# Altium footprint library EVAL.PcbLib: 3 footprints
Each footprint in its own frame and in the unit in brackets; x right, y up, seen from the top. Pads: shape width x height; smd on the part's side, far side on the other; paste and mask are expansions set on the pad; w line width, h text height; cw(c..) or ccw(c..) is an arc to the next point about the centre after c.
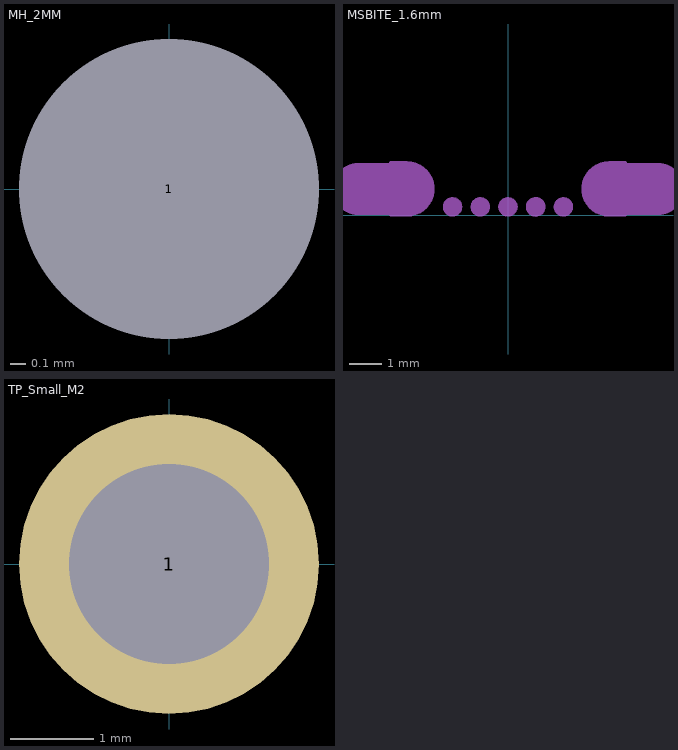
[diagram p0: the footprints below, top view; thin cyan lines are the x and y axes]

## MH_2MM [mm] "Mounting Hole - 2 mm"
pads (1):
  round 0.1 hole 2 unplated paste-2539.97 mask+0: 1(0,0)

## MSBITE_1.6mm [mm] "Mousebite - 1.6 mm spacing"
Route Tool Path:
  circle w0.25: c-1.7,0.25 r0.125
  circle w0.25: c1.7,0.25 r0.125
  circle w0.25: c-0.85,0.25 r0.125
  circle w0.25: c0.85,0.25 r0.125
  circle w0.25: c0,0.25 r0.125
  lines w1.6: -4.6,0.8 -3.1,0.8 ; 3.1,0.8 4.6,0.8
Manufacturing Notes:
  circle w0.1: c-1.7,0.25 r0.25
  circle w0.1: c-0.85,0.25 r0.25
  circle w0.1: c0,0.25 r0.25
  circle w0.1: c1.7,0.25 r0.25
  circle w0.1: c0.85,0.25 r0.255
  lines w0.1: -3.6,0 -3.1,0 ccw(c-3.1,0.8) -3.1,1.6 -3.6,1.6 ; -3.5,0.8 -2.7,0.8 ; -3.1,0.4 -3.1,1.2 ; 2.7,0.8 3.5,0.8 ; 3.1,0.4 3.1,1.2 ; 3.6,0 3.1,0 cw(c3.1,0.8) 3.1,1.6 3.6,1.6

## TP_Small_M2 [mm]
pads (1):
  round 3.6 hole 2.4: 1(0,0)